# Altium schematic symbol library SJ-3523-SMT-TR.SchLib: 1 symbol
Pins are listed as number, name and electrical type; pins without a type are passive.

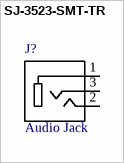
[diagram p0: symbol SJ-3523-SMT-TR]

## SJ-3523-SMT-TR
designator J?, comment Audio Jack
SJ-352x-SMT CONN JACK STEREO 3.5MM SMD R/A; Value: *; Category: Connectors, Interconnects
footprint CUI_SJ-3523-SMT-TR (SJ-352x-SMT)
pins: 1, 2, 3